# EAGLE library part I__74*109 (library ..SMD)
Dual J-K positive edge triggered FLIP FLOP, preset and clear
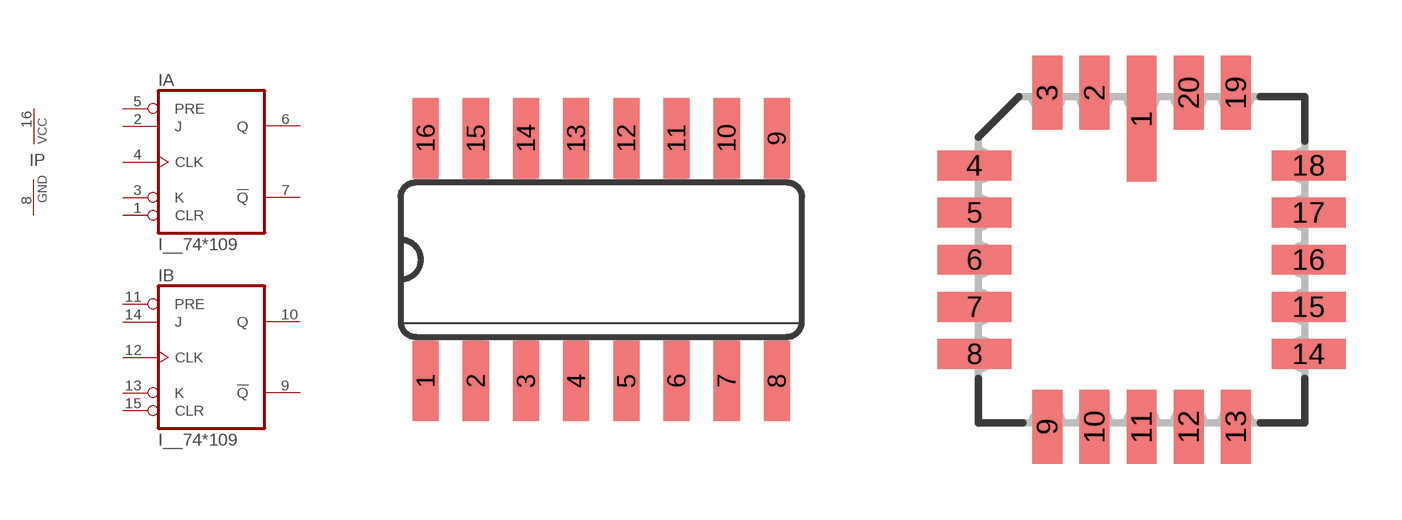
[diagram p195: symbol with the pads of SO16; footprints SO16, LCC20]

Designator prefix I; gates A=74109 B=74109 P=PWRN-2

## I__74AC109D, I__74ACT109D, I__74HC109D, I__74HCT109D, I__74LS109D  [SO16]
1  A:CLR  in
2  A:J  in
3  A:K  in
4  A:CLK  in
5  A:PRE  in
6  A:Q  out
7  A:!Q  out
8  P:GND  pwr
9  B:!Q  out
10  B:Q  out
11  B:PRE  in
12  B:CLK  in
13  B:K  in
14  B:J  in
15  B:CLR  in
16  P:VCC  pwr

## I__74AC109FK, I__74ACT109FK, I__74HC109FK, I__74HCT109FK, I__74LS109FK  [LCC20]
2  A:CLR  in
3  A:J  in
4  A:K  in
5  A:CLK  in
7  A:PRE  in
8  A:Q  out
9  A:!Q  out
10  P:GND  pwr
12  B:!Q  out
13  B:Q  out
14  B:PRE  in
15  B:CLK  in
17  B:K  in
18  B:J  in
19  B:CLR  in
20  P:VCC  pwr

## Footprint SO16 (pad centres in mm)
Small Outline Package 16
smd 0.66 x 2.032: 1 -4.445,-3.073; 2 -3.175,-3.073; 3 -1.905,-3.073; 4 -0.635,-3.073; 5 0.635,-3.073; 6 1.905,-3.073; 7 3.175,-3.073; 8 4.445,-3.073; 9 4.445,3.073; 10 3.175,3.073; 11 1.905,3.073; 12 0.635,3.073; 13 -0.635,3.073; 14 -1.905,3.073; 15 -3.175,3.073; 16 -4.445,3.073

## Footprint LCC20 (pad centres in mm)
Leadless Chip Carrier Ceramic Package
smd 0.8 x 3.4: 1 0,3.8
smd 0.8 x 2: 2 -1.27,4.5; 3 -2.54,4.5; 9 -2.54,-4.5; 10 -1.27,-4.5; 11 0,-4.5; 12 1.27,-4.5; 13 2.54,-4.5; 19 2.54,4.5; 20 1.27,4.5
smd 2 x 0.8: 4 -4.5,2.54; 5 -4.5,1.27; 6 -4.5,0; 7 -4.5,-1.27; 8 -4.5,-2.54; 14 4.5,-2.54; 15 4.5,-1.27; 16 4.5,0; 17 4.5,1.27; 18 4.5,2.54